# EAGLE library part LMR33630ADDA (library alvie)
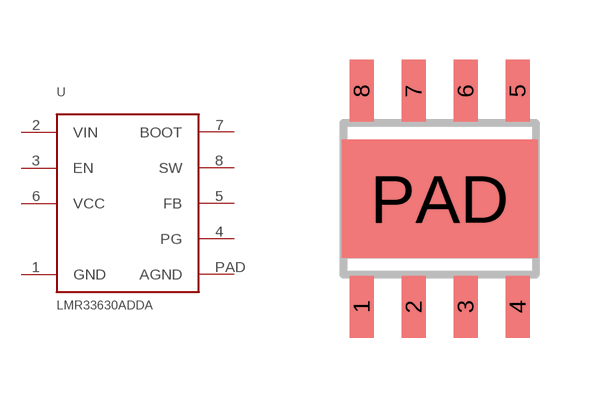
[diagram p58: symbol with the pads of POWERPAD-SOIC8; footprint POWERPAD-SOIC8]

Designator prefix -

## LMR33630ADDA  [POWERPAD-SOIC8]
1  GND  pwr
2  VIN  pwr
3  EN  in
4  PG  out
5  FB  pas
6  VCC  pas
7  BOOT  pas
8  SW  pas
PAD  AGND  pwr

## Footprint POWERPAD-SOIC8 (pad centres in mm)
smd 0.6 x 1.55: 1 -1.95,-2.7; 2 -0.65,-2.7; 3 0.65,-2.7; 4 1.95,-2.7; 5 1.95,2.7; 6 0.65,2.7; 7 -0.65,2.7; 8 -1.95,2.7
smd 4.9 x 2.95: PAD 0,0